# EAGLE library part RJ45-TRAFO-L (library con-amphenol-rj45-ld)
RJ45 socket with integrated magnetics and LEDs Naming: Amphenol LMJ1998824110DL1T39J TME RJ45-TRAFO-L Author: Petr Kalandra <mailto:kalandrap@gmail.com> Datasheet: http://zefiryn.tme.pl/dok/zlacza/rjtrafol.PDF
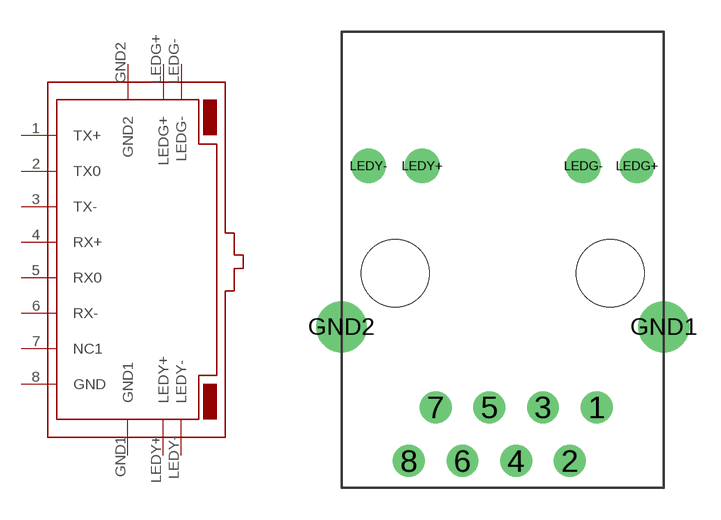
[diagram p0: symbol with the pads of RJ45-TRAFO-L; footprint RJ45-TRAFO-L]

Designator prefix -

## RJ45-TRAFO-L  [RJ45-TRAFO-L]
1  TX+
2  TX0
3  TX-
4  RX+
5  RX0
6  RX-
7  NC1  nc
8  GND  pwr
GND1  GND1  pwr
GND2  GND2  pwr
LEDG+  LEDG+
LEDG-  LEDG-
LEDY+  LEDY+
LEDY-  LEDY-

## Footprint RJ45-TRAFO-L (pad centres in mm)
RJ45 with LED pins
drill 1: 1 5.715,-7.62; 2 4.445,-10.16; 3 3.175,-7.62; 4 1.905,-10.16; 5 0.635,-7.62; 6 -0.635,-10.16; 7 -1.905,-7.62; 8 -3.175,-10.16
drill 1.6: GND1 8.89,-3.81; GND2 -6.35,-3.81
drill 1.1: LEDG+ 7.62,3.81; LEDG- 5.08,3.81; LEDY+ -2.54,3.81; LEDY- -5.08,3.81
hole 3.2 at 6.35,-1.27
hole 3.2 at -3.81,-1.27